# EAGLE library part NRF51822 (library IC_Wireless-RF)
2.4-GHz Bluetooth® low energy proprietary System-on-Chip Datasheet <https://www.nordicsemi.com/-/media/DocLib/Other/Product_Spec/nRF51822PSv33.pdf>
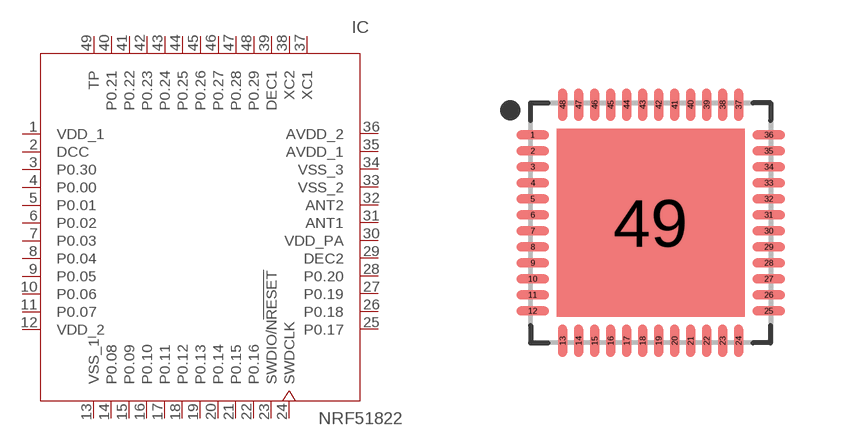
[diagram p11: symbol with the pads of QFN40P600X600X90-49T470N; footprint QFN40P600X600X90-49T470N]

Designator prefix IC

## NRF51822 (CATEGORY: INTERFACE IC; DESCRIPTION: RF System on a Chip - SoC 2.4GHz BT low Energy 256KB Flash 16KB Ram; MANUFACTURER: Nordic Semiconductor; MPN: NRF51822-QFAA-T; OPERATING_TEMPERATURE: -25C to 75C; ROHS_COMPLIANT: COMPLIANT; SERIES: NRF51822; SUB_CATEGORY: Wireless & RF Integrated Circuits; TYPE: RF System on a Chip - SoC; VALUE: NRF51822)  [QFN40P600X600X90-49T470N]
1  VDD_1  pwr
2  DCC  pwr
3  P0.30
4  P0.00
5  P0.01
6  P0.02
7  P0.03
8  P0.04
9  P0.05
10  P0.06
11  P0.07
12  VDD_2  pwr
13  VSS_1  pwr
14  P0.08
15  P0.09
16  P0.10
17  P0.11
18  P0.12
19  P0.13
20  P0.14
21  P0.15
22  P0.16
23  SWDIO/N!RESET
24  SWDCLK  in
25  P0.17
26  P0.18
27  P0.19
28  P0.20
29  DEC2  pwr
30  VDD_PA  pwr
31  ANT1
32  ANT2
33  VSS_2  pwr
34  VSS_3  pwr
35  AVDD_1  pwr
36  AVDD_2  pwr
37  XC1  in
38  XC2  out
39  DEC1  pwr
40  P0.21
41  P0.22
42  P0.23
43  P0.24
44  P0.25
45  P0.26
46  P0.27
47  P0.28
48  P0.29
49  TP

## Footprint QFN40P600X600X90-49T470N (pad centres in mm)
48-QFN, 0.40 mm pitch, 6.00 X 6.00 X 0.90 mm body, 4.70 X 4.70 mm thermal pad 48-pin QFN package with 0.40 mm pitch with body size 6.00 X 6.00 X 0.90 mm and thermal pad size 4.70 X 4.70 mm
smd 0.811 x 0.22: 1 -2.951,2.2; 2 -2.951,1.8; 3 -2.951,1.4; 4 -2.951,1; 5 -2.951,0.6; 6 -2.951,0.2; 7 -2.951,-0.2; 8 -2.951,-0.6; 9 -2.951,-1; 10 -2.951,-1.4; 11 -2.951,-1.8; 12 -2.951,-2.2; 25 2.951,-2.2; 26 2.951,-1.8; 27 2.951,-1.4; 28 2.951,-1; 29 2.951,-0.6; 30 2.951,-0.2; 31 2.951,0.2; 32 2.951,0.6; 33 2.951,1; 34 2.951,1.4; 35 2.951,1.8; 36 2.951,2.2
smd 0.22 x 0.811: 13 -2.2,-2.951; 14 -1.8,-2.951; 15 -1.4,-2.951; 16 -1,-2.951; 17 -0.6,-2.951; 18 -0.2,-2.951; 19 0.2,-2.951; 20 0.6,-2.951; 21 1,-2.951; 22 1.4,-2.951; 23 1.8,-2.951; 24 2.2,-2.951; 37 2.2,2.951; 38 1.8,2.951; 39 1.4,2.951; 40 1,2.951; 41 0.6,2.951; 42 0.2,2.951; 43 -0.2,2.951; 44 -0.6,2.951; 45 -1,2.951; 46 -1.4,2.951; 47 -1.8,2.951; 48 -2.2,2.951
smd 4.7 x 4.7: 49 0,0